# EAGLE library part 50208-018 (library con-aces-50208-series)
ACES CONNECTORS 50208 SERIES ACES Connecors 50208 <https://www.acesconn.com/tw/series/50208-xxxxx-xxx/1224>
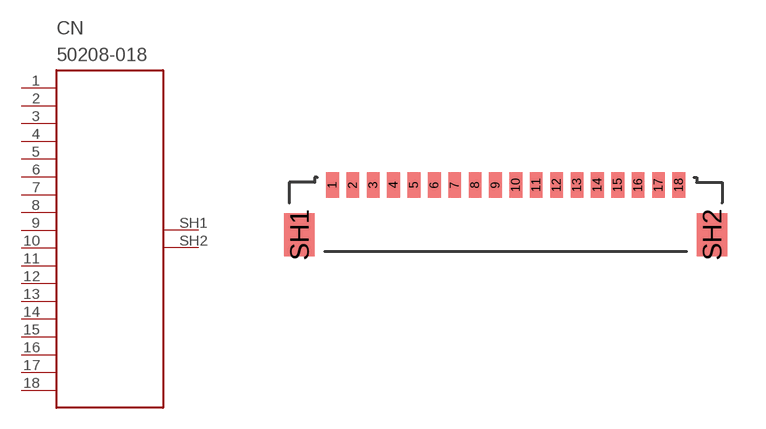
[diagram p14: symbol with the pads of 50208-018; footprint 50208-018]

Designator prefix CN

## 50208-018  [50208-018]
1  1
2  2
3  3
4  4
5  5
6  6
7  7
8  8
9  9
10  10
11  11
12  12
13  13
14  14
15  15
16  16
17  17
18  18
SH1  SH1
SH2  SH2

## Footprint 50208-018 (pad centres in mm)
smd 0.5 x 1: 1 -6.8,0; 2 -6,0; 3 -5.2,0; 4 -4.4,0; 5 -3.6,0; 6 -2.8,0; 7 -2,0; 8 -1.2,0; 9 -0.4,0; 10 0.4,0; 11 1.2,0; 12 2,0; 13 2.8,0; 14 3.6,0; 15 4.4,0; 16 5.2,0; 17 6,0; 18 6.8,0
smd 1.2 x 1.7: SH1 -8.1,-1.95; SH2 8.1,-1.95